# EAGLE library part BLUETOOTH-RN42 (library rn42)
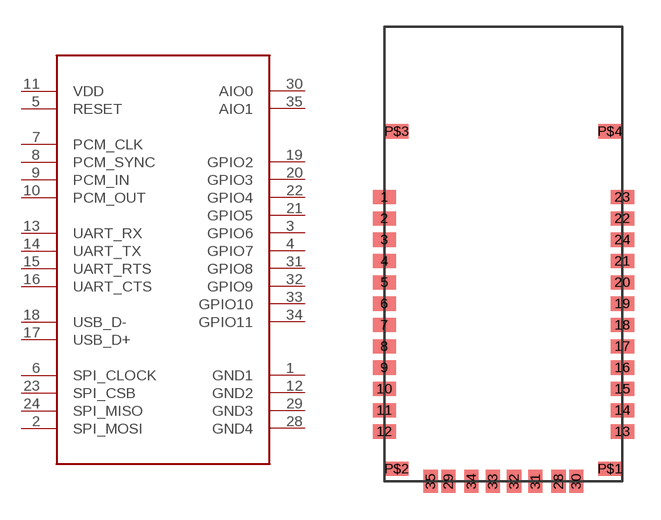
[diagram p0: symbol with the pads of BLUETOOTH-RN42; footprint BLUETOOTH-RN42]

Designator prefix -

## BLUETOOTH-RN42  [BLUETOOTH-RN42]
1  GND1  pwr
2  SPI_MOSI
3  GPIO6
4  GPIO7
5  RESET
6  SPI_CLOCK
7  PCM_CLK
8  PCM_SYNC
9  PCM_IN
10  PCM_OUT
11  VDD  pwr
12  GND2  pwr
13  UART_RX
14  UART_TX
15  UART_RTS
16  UART_CTS
17  USB_D+
18  USB_D-
19  GPIO2
20  GPIO3
21  GPIO5
22  GPIO4
23  SPI_CSB
24  SPI_MISO
28  GND4  pwr
29  GND3  pwr
30  AIO0
31  GPIO8
32  GPIO9
33  GPIO10
34  GPIO11
35  AIO1

## Footprint BLUETOOTH-RN42 (pad centres in mm)
smd 1.3 x 0.8: 1 0,16; 2 0,14.8; 3 0,13.6; 4 0,12.4; 5 0,11.2; 6 0,10; 7 0,8.8; 8 0,7.6; 9 0,6.4; 10 0,5.2; 11 0,4; 12 0,2.8; 13 13.4,2.8; 14 13.4,4; 15 13.4,5.2; 16 13.4,6.4; 17 13.4,7.6; 18 13.4,8.8; 19 13.4,10; 20 13.4,11.2; 21 13.4,12.4; 22 13.4,14.8; 23 13.4,16; 24 13.4,13.6; P$1 12.7,0.7; P$2 0.7,0.7; P$3 0.7,19.7; P$4 12.7,19.7
smd 0.8 x 1.3: 28 9.8,0; 29 3.6,0; 30 10.8,0; 31 8.5,0; 32 7.3,0; 33 6.1,0; 34 4.9,0; 35 2.6,0